# EAGLE library part 662016236022 (library Wire-to-Board (rev18a))
WR-MPC3 3.00mm Male Dual Row SMT Angled Header with Plastic Pegs, 16 Pins=>Code : Con_WTB_MPC3_2_PCB_SMT_662016236022 <http://katalog.we-online.de/media/thumbs2/eican/thb_Con_WTB_MPC3_2_PCB_SMT_6620xx236022_pf2.jpg> Details see: http://katalog.we-online.de/en/em/MPC3_3_00_SMT_MALE_DUAL_ROW_ANGLED_HEADER_W_PLASTIC_PEGS_6621XX236022 Created 2014-06-06, Karrer Zheng 2014 (C) Würth Elektronik
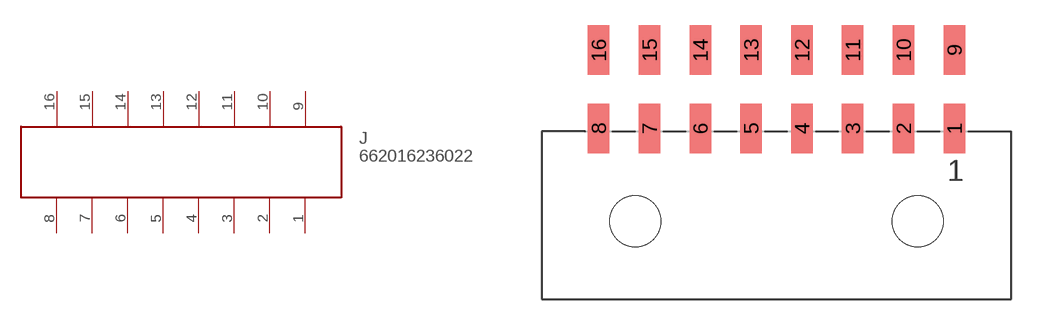
[diagram p380: symbol with the pads of 662016236022; footprint 662016236022]

Designator prefix J

## 662016236022  [662016236022]
1  1
2  2
3  3
4  4
5  5
6  6
7  7
8  8
9  9
10  10
11  11
12  12
13  13
14  14
15  15
16  16

## Footprint 662016236022 (pad centres in mm)
WR-MPC3 3.00mm Male Dual Row SMT Angled Header with Plastic Pegs, 16 Pins
smd 1.27 x 2.92: 1 10.5,5.48; 2 7.5,5.48; 3 4.5,5.48; 4 1.5,5.48; 5 -1.5,5.48; 6 -4.5,5.48; 7 -7.5,5.48; 8 -10.5,5.48; 9 10.5,10.1; 10 7.5,10.1; 11 4.5,10.1; 12 1.5,10.1; 13 -1.5,10.1; 14 -4.5,10.1; 15 -7.5,10.1; 16 -10.5,10.1
hole 3 at 8.34,0
hole 3 at -8.34,0